# EAGLE library part AT24C16 (library DSP)
16Kbits EEPROM
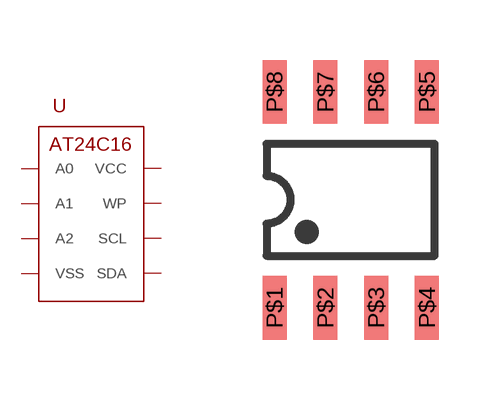
[diagram p1: symbol with the pads of SOIC-8; footprint SOIC-8]

Designator prefix U

## AT24C16/SOIC-8  [SOIC-8]
P$1  A0
P$2  A1
P$3  A2
P$4  VSS
P$5  SDA
P$6  SCL
P$7  WP
P$8  VCC

## Footprint SOIC-8 (pad centres in mm)
smd 0.6 x 1.6: P$1 0.2,0; P$2 1.47,0; P$3 2.74,0; P$4 4.01,0; P$5 4.01,5.4; P$6 2.74,5.4; P$7 1.47,5.4; P$8 0.2,5.4